# Altium schematic symbol library SN74LVC1G04DCKR.SchLib: 1 symbol
Pins are listed as number, name and electrical type; pins without a type are passive.

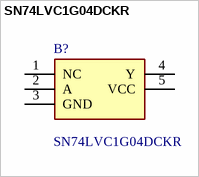
[diagram p0: symbol SN74LVC1G04DCKR]

## SN74LVC1G04DCKR
designator B?
SN74LVC1G04 Single Inverter Gate; Manufacturer_Name: Texas Instruments; Geometry.Height: 1.1mm; element14 Part Number: *; element14 Price/Stock: *; Manufacturer_Part_Number: SN74LVC1G04DCKR; Datasheet Link: http://www.ti.com/lit/ds/symlink/sn74lvc1g04.pdf
footprint SOT65P210X110-5N
pins: 1 NC, 2 A, 3 GND, 4 Y, 5 VCC